# Altium schematic symbol library TMP117MAIDRVT.SchLib: 1 symbol
Pins are listed as number, name and electrical type; pins without a type are passive.

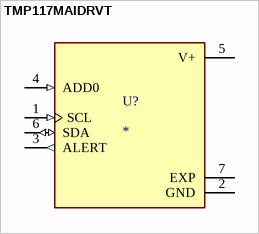
[diagram p0: symbol TMP117MAIDRVT]

## TMP117MAIDRVT
designator U?
0.1C accurate digital temperature sensor with integrated NV memory 6-WSON 0 to 85; MF: Texas Instruments; MP: TMP117MAIDRVT; Value: *; Purchase-URL: https://pricing.snapeda.com/search/part/TMP117MAIDRVT/?ref=eda; Digi-Key_Part_Number: 296-52215-1-ND; Check_prices: https://www.snapeda.com/parts/TMP117MAIDRVT/Texas+Instruments/view-part/?ref=eda; SnapEDA_Link: https://www.snapeda.com/parts/TMP117MAIDRVT/Texas+Instruments/view-part/?ref=snap; Package: WSON-6 Texas Instruments
footprint SON65P200X200X80-7N
pins: 1 SCL (in), 2 GND (power), 3 ALERT (out), 4 ADD0 (in), 5 V+ (power), 6 SDA (io), 7 EXP (power)